# Altium footprint library Connectors.PcbLib: 21 footprints (part 1 of 2)
Each footprint in its own frame and in the unit in brackets; x right, y up, seen from the top. Pads: shape width x height; smd on the part's side, far side on the other; paste and mask are expansions set on the pad; w line width, h text height; cw(c..) or ccw(c..) is an arc to the next point about the centre after c.
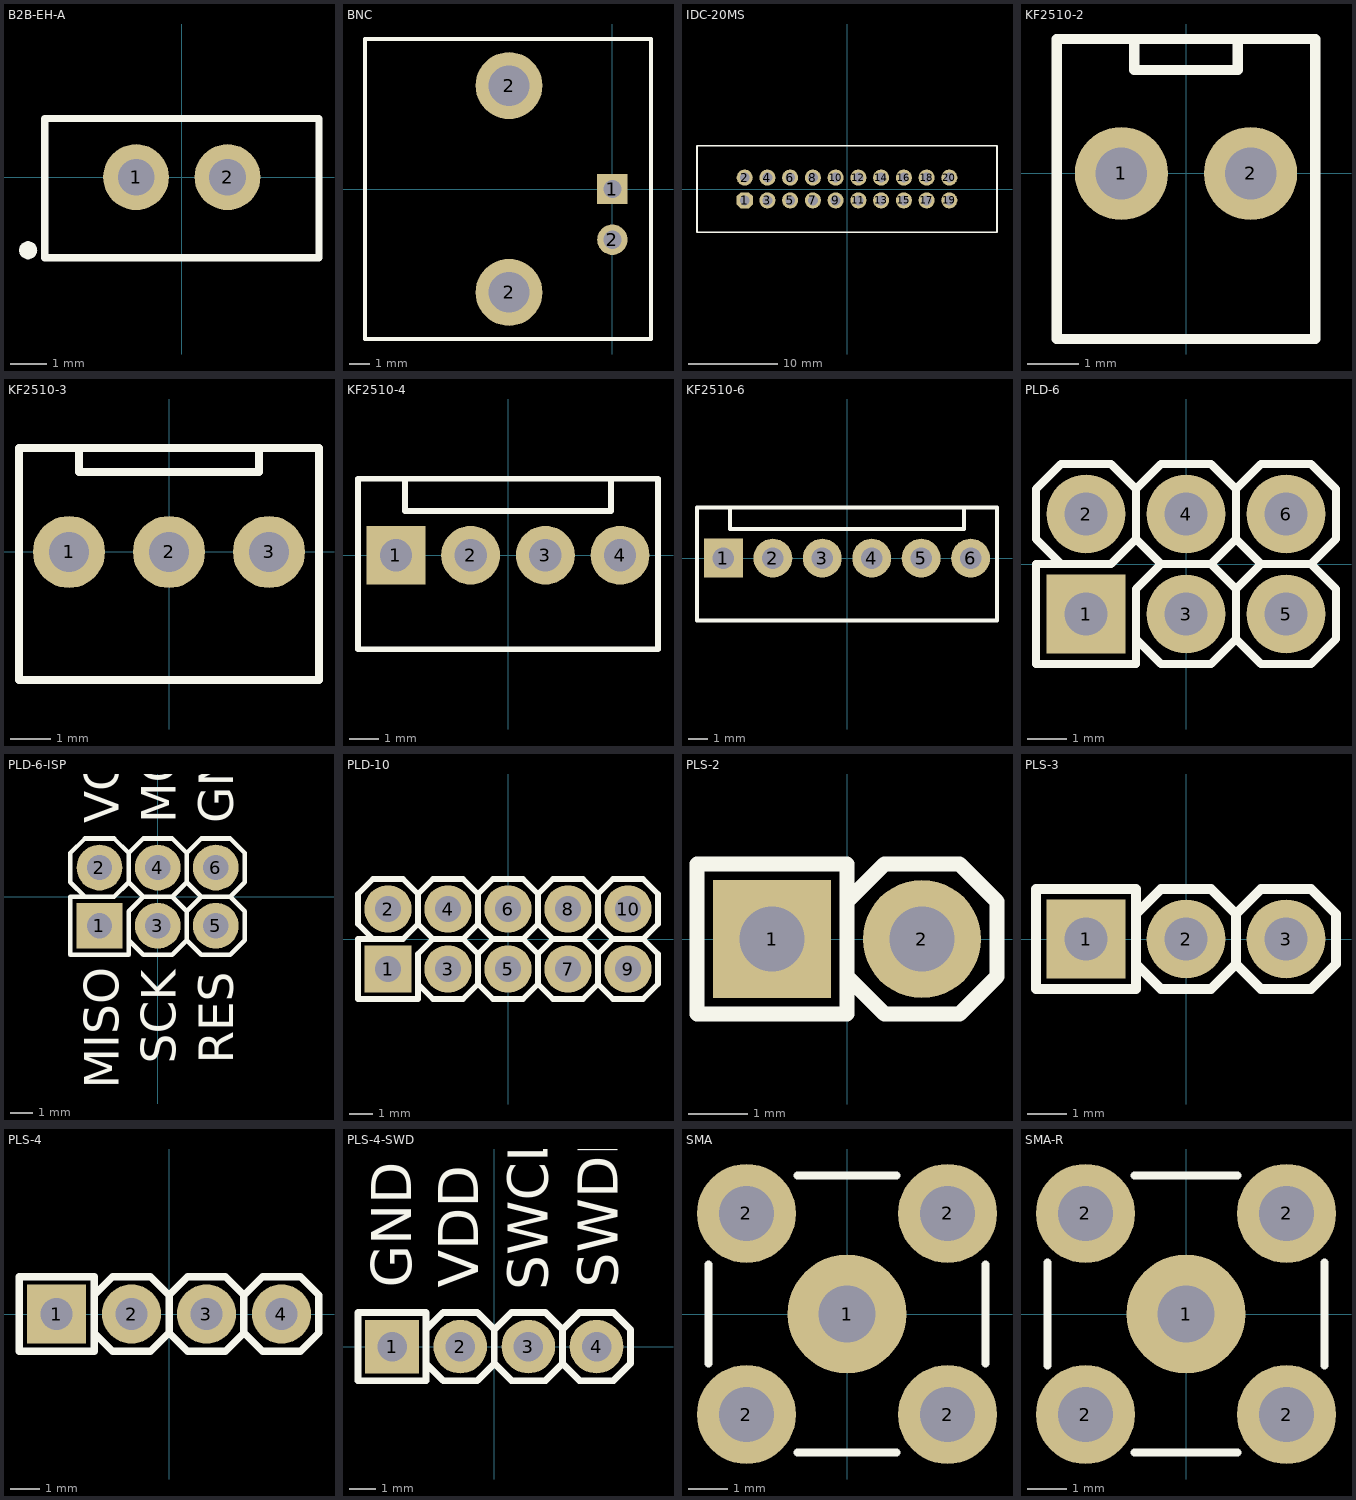
[diagram p0: the footprints below, top view; thin cyan lines are the x and y axes]

## B2B-EH-A [mm]
pads (3):
  round 1.8 hole 1: 1(-1.25,0) 2(1.25,0)
  round 0.5 on Top Overlay: ""(-4.2,-2)
Top Overlay:
  lines w0.2: -3.75,-2.2 -3.75,1.6 3.75,1.6 3.75,-2.2 -3.75,-2.2
3D body "User Library-B2B-EH-A.STEP": height 6.05, standoff -3.15, extent -3.75,-2.2 3.75,1.6

## BNC [mm]
pads (4):
  rect 1.5x1.5 hole 0.9: 1(0,0)
  round 3.3 hole 2: 2(-5.1,-5.1) 2(-5.1,5.1)
  round 1.5 hole 0.9: 2(0,-2.5)
Top Overlay:
  lines w0.025: -12.2,-7.4 1.9,-7.4 1.9,7.4 -12.2,7.4 -12.2,6.25 -12.2,-6.25 -12.2,-7.4
  lines w0.2: -12.2,-7.4 -12.2,-6.25 -12.2,6.25 -12.2,7.4 1.9,7.4 1.9,-7.4 -12.2,-7.4
3D body "BNC.stp": height 16.15, standoff -3.95, extent -33.468,-7.35 2.032,7.35

## IDC-20MS [mm]
height 10
pads (20):
  oct 1.8x1.8 hole 1.1: 1(-11.43,-1.27)
  round 1.8 hole 1.1: 2(-11.43,1.27) 3(-8.89,-1.27) 4(-8.89,1.27) 5(-6.35,-1.27) 6(-6.35,1.27) 7(-3.81,-1.27) 8(-3.81,1.27) 9(-1.27,-1.27) 10(-1.27,1.27) 11(1.27,-1.27) 12(1.27,1.27) 13(3.81,-1.27) 14(3.81,1.27) 15(6.35,-1.27) 16(6.35,1.27) 17(8.89,-1.27) 18(8.89,1.27) 19(11.43,-1.27) 20(11.43,1.27)
Top Overlay:
  lines w0.2: -16.764,-4.826 16.764,-4.826 16.764,4.826 -16.764,4.826 -16.764,-4.826
3D body "IDC-20MS.STEP": height 9, standoff -3, extent -16.43,-4.52 16.57,4.58

## KF2510-2 [mm]
pads (2):
  round 1.8 hole 1: 1(-1.25,0) 2(1.25,0)
Top Overlay:
  lines w0.2: -1,2.6 -1,2 1,2 1,2.6 ; -2.5,-3.2 2.5,-3.2 2.5,2.6 -2.5,2.6 -2.5,-3.2
3D body "2510-2pin_step.step": height 11.4, standoff -2, extent -2.53,-3.2 2.53,2.6

## KF2510-3 [mm]
pads (3):
  round 1.8 hole 1: 1(-2.5,0) 2(0,0) 3(2.5,0)
Top Overlay:
  lines w0.2: -2.25,2.6 -2.25,2 2.25,2 2.25,2.6 ; -3.75,-3.2 -3.75,2.6 3.75,2.6 3.75,-3.2 -3.75,-3.2
3D body "KF2510-3pin.step": height 11.4, standoff -2, extent -3.8,-3.2 3.8,2.6

## KF2510-4 [mm]
height 10
pads (4):
  rect 2x2 hole 1.1: 1(-3.81,0)
  round 2 hole 1.1: 2(-1.27,0) 3(1.27,0) 4(3.81,0)
Top Overlay:
  lines w0.2: -3.5,2.5 -3.5,1.5 3.5,1.5 3.5,2.5 ; -5.1,-3.2 5.1,-3.2 5.1,2.6 -5.1,2.6 -5.1,-3.2
3D body "2510-4pin_step.step": height 11.4, standoff -2, extent -5.06,-3.2 5.06,2.6

## KF2510-6 [mm]
height 10
pads (6):
  rect 2x2 hole 1.1: 1(-6.35,0)
  round 2 hole 1.1: 2(-3.81,0) 3(-1.27,0) 4(1.27,0) 5(3.81,0) 6(6.35,0)
Top Overlay:
  lines w0.2: -6,2.6 -6,1.5 6,1.5 6,2.6 ; -7.7,-3.2 7.7,-3.2 7.7,2.6 -7.7,2.6 -7.7,-3.2
3D body "2510-6pin_step.step": height 11.4, standoff -2, extent -7.61,-3.2 7.59,2.6

## PLD-6 [mm]
height 10
pads (6):
  rect 2x2 hole 1.1: 1(-2.54,-1.27)
  round 2 hole 1.1: 2(-2.54,1.27) 3(0,-1.27) 4(0,1.27) 5(2.54,-1.27) 6(2.54,1.27)
Top Overlay:
  lines w0.2: -3.175,0 -3.81,0.635 -3.81,1.905 -3.175,2.54 ; -1.27,-1.905 -0.635,-2.54 0.635,-2.54 1.27,-1.905 ; -3.175,2.54 -1.905,2.54 ; -3.175,2.54 -1.905,2.54 ; -3.175,2.54 -1.905,2.54 ; -1.905,2.54 -1.27,1.905 ; -1.27,0.635 -0.635,0 ; -1.27,0.635 -1.905,0 -3.81,0 -3.81,-2.54 -1.27,-2.54 -1.27,-0.635 -0.635,0 ; -1.27,0.635 -1.27,1.905 ; -1.27,1.905 -0.635,2.54 ; -0.635,0 0.635,0 ; -0.635,2.54 0.635,2.54 ; -0.635,2.54 0.635,2.54 ; 0.635,0 1.27,-0.635 ; 0.635,0 1.27,0.635 ; 0.635,2.54 1.27,1.905 ; 1.27,-1.905 1.27,-0.635 ; 1.27,-1.905 1.905,-2.54 3.175,-2.54 3.81,-1.905 3.81,-0.635 3.175,0 ; 1.27,-0.635 1.905,0 ; 1.27,0.635 1.905,0 ; 1.27,0.635 1.27,1.905 ; 1.27,1.905 1.905,2.54 ; 1.905,0 3.175,0 ; 1.905,2.54 3.175,2.54 ; 1.905,2.54 3.175,2.54 ; 3.175,0 3.81,0.635 3.81,1.905 3.175,2.54
3D body "PLD-6.STEP": height 8.54, standoff -3, extent -3.81,-2.54 3.81,2.54

## PLD-6-ISP [mm]
height 10
pads (6):
  rect 2x2 hole 1.1: 1(-2.54,-1.27)
  round 2 hole 1.1: 2(-2.54,1.27) 3(0,-1.27) 4(0,1.27) 5(2.54,-1.27) 6(2.54,1.27)
Top Overlay:
  lines w0.2: -3.175,0 -3.81,0.635 -3.81,1.905 -3.175,2.54 ; -1.27,-1.905 -0.635,-2.54 0.635,-2.54 1.27,-1.905 ; -3.175,2.54 -1.905,2.54 ; -3.175,2.54 -1.905,2.54 ; -3.175,2.54 -1.905,2.54 ; -1.905,2.54 -1.27,1.905 ; -1.27,0.635 -0.635,0 ; -1.27,0.635 -1.905,0 -3.81,0 -3.81,-2.54 -1.27,-2.54 -1.27,-0.635 -0.635,0 ; -1.27,0.635 -1.27,1.905 ; -1.27,1.905 -0.635,2.54 ; -0.635,0 0.635,0 ; -0.635,2.54 0.635,2.54 ; -0.635,2.54 0.635,2.54 ; 0.635,0 1.27,-0.635 ; 0.635,0 1.27,0.635 ; 0.635,2.54 1.27,1.905 ; 1.27,-1.905 1.27,-0.635 ; 1.27,-1.905 1.905,-2.54 3.175,-2.54 3.81,-1.905 3.81,-0.635 3.175,0 ; 1.27,-0.635 1.905,0 ; 1.27,0.635 1.905,0 ; 1.27,0.635 1.27,1.905 ; 1.27,1.905 1.905,2.54 ; 1.905,0 3.175,0 ; 1.905,2.54 3.175,2.54 ; 1.905,2.54 3.175,2.54 ; 3.175,0 3.81,0.635 3.81,1.905 3.175,2.54
  text "VCC" at -1.7,3.2 h1.5
  text "MOSI" at 0.8,3.2 h1.5
  text "GND" at 3.3,3.2 h1.5
  text "RES" at 3.3,-7.3 h1.5
  text "SCK" at 0.8,-7.3 h1.5
  text "MISO" at -1.7,-8.4 h1.5
3D body "PLD-6.STEP": height 8.54, standoff -3, extent -3.81,-2.54 3.81,2.54

## PLD-10 [mm]
height 10
pads (10):
  rect 2x2 hole 1.1: 1(-5.08,-1.27)
  round 2 hole 1.1: 2(-5.08,1.27) 3(-2.54,-1.27) 4(-2.54,1.27) 5(0,-1.27) 6(0,1.27) 7(2.54,-1.27) 8(2.54,1.27) 9(5.08,-1.27) 10(5.08,1.27)
Top Overlay:
  lines w0.254: -5.715,0 -6.35,0.635 -6.35,1.905 -5.715,2.54 ; -3.81,-1.905 -3.175,-2.54 -1.905,-2.54 -1.27,-1.905 ; -5.715,2.54 -4.445,2.54 ; -5.715,2.54 -4.445,2.54 ; -4.445,2.54 -3.81,1.905 ; -3.81,0.635 -3.175,0 ; -3.81,0.635 -4.445,0 -6.35,0 -6.35,-2.54 -3.81,-2.54 -3.81,-0.635 -3.175,0 ; -3.81,0.635 -3.81,1.905 ; -3.81,1.905 -3.175,2.54 ; -3.175,0 -1.905,0 ; -3.175,2.54 -1.905,2.54 ; -3.175,2.54 -1.905,2.54 ; -1.905,0 -1.27,0.635 ; -1.905,0 -1.27,-0.635 ; -1.905,2.54 -1.27,1.905 ; -1.27,-1.905 -1.27,-0.635 ; -1.27,-1.905 -0.635,-2.54 0.635,-2.54 1.27,-1.905 ; -1.27,-0.635 -0.635,0 ; -1.27,0.635 -0.635,0 ; -1.27,0.635 -1.27,1.905 ; -1.27,1.905 -0.635,2.54 ; -0.635,0 0.635,0 ; -0.635,2.54 0.635,2.54 ; -0.635,2.54 0.635,2.54 ; 0.635,0 1.27,0.635 ; 0.635,0 1.27,-0.635 ; 0.635,2.54 1.27,1.905 ; 1.27,-1.905 1.27,-0.635 ; 1.27,-1.905 1.905,-2.54 3.175,-2.54 3.81,-1.905 ; 1.27,-0.635 1.905,0 ; 1.27,0.635 1.905,0 ; 1.27,0.635 1.27,1.905 ; 1.27,1.905 1.905,2.54 ; 1.905,0 3.175,0 ; 1.905,2.54 3.175,2.54 ; 1.905,2.54 3.175,2.54 ; 3.175,0 3.81,0.635 ; 3.175,0 3.81,-0.635 ; 3.175,2.54 3.81,1.905 ; 3.81,-1.905 4.445,-2.54 5.715,-2.54 6.35,-1.905 6.35,-0.635 5.715,0 ; 3.81,-1.905 3.81,-0.635 ; 3.81,-0.635 4.445,0 ; 3.81,0.635 3.81,1.905 ; 3.81,0.635 4.445,0 ; 3.81,1.905 4.445,2.54 ; 4.445,0 5.715,0 ; 4.445,2.54 5.715,2.54 ; 4.445,2.54 5.715,2.54 ; 5.715,0 6.35,0.635 6.35,1.905 5.715,2.54
3D body "PLD-10.STEP": height 8.54, standoff -3, extent -6.35,-2.54 6.35,2.54

## PLS-2 [mm]
height 10
pads (2):
  rect 2x2 hole 1.1: 1(-1.27,0)
  round 2 hole 1.1: 2(1.27,0)
Top Overlay:
  lines w0.254: 0,-0.635 0.635,-1.27 1.905,-1.27 2.54,-0.635 2.54,0.635 1.905,1.27 0.635,1.27 0,0.635 ; -2.54,-1.27 0,-1.27 0,1.27 -2.54,1.27 -2.54,-1.27
3D body "PLS-2.STEP": height 8.54, standoff -3, extent -2.573,-1.284 2.507,1.256

## PLS-3 [mm]
height 10
pads (3):
  rect 2x2 hole 1.1: 1(-2.54,0)
  round 2 hole 1.1: 2(0,0) 3(2.54,0)
Top Overlay:
  lines w0.254: -1.27,-0.635 -0.635,-1.27 0.635,-1.27 1.27,-0.635 ; -1.27,0.635 -0.635,1.27 0.635,1.27 1.27,0.635 ; 1.27,-0.635 1.905,-1.27 3.175,-1.27 3.81,-0.635 3.81,0.635 3.175,1.27 1.905,1.27 1.27,0.635 ; 1.27,-0.635 1.27,0.635 ; -3.81,-1.27 -1.27,-1.27 -1.27,1.27 -3.81,1.27 -3.81,-1.27
3D body "PLS-3.STEP": height 8.54, standoff -3, extent -3.81,-1.27 3.81,1.27

## PLS-4 [mm]
height 10
pads (4):
  rect 2x2 hole 1.1: 1(-3.81,0)
  round 2 hole 1.1: 2(-1.27,0) 3(1.27,0) 4(3.81,0)
Top Overlay:
  lines w0.254: -2.54,-0.635 -1.905,-1.27 -0.635,-1.27 0,-0.635 ; -2.54,0.635 -1.905,1.27 -0.635,1.27 0,0.635 ; 0,-0.635 0.635,-1.27 1.905,-1.27 2.54,-0.635 ; 0,-0.635 0,0.635 ; 0,0.635 0.635,1.27 1.905,1.27 2.54,0.635 ; 2.54,-0.635 3.175,-1.27 4.445,-1.27 5.08,-0.635 5.08,0.635 4.445,1.27 3.175,1.27 2.54,0.635 ; 2.54,-0.635 2.54,0.635 ; -5.08,-1.27 -2.54,-1.27 -2.54,1.27 -5.08,1.27 -5.08,-1.27
3D body "PLS-4.STEP": height 8.54, standoff -3, extent -5.08,-1.27 5.08,1.27

## PLS-4-SWD [mm]
height 10
pads (4):
  rect 2x2 hole 1.1: 1(-3.81,0)
  round 2 hole 1.1: 2(-1.27,0) 3(1.27,0) 4(3.81,0)
Top Overlay:
  lines w0.254: -2.54,-0.635 -1.905,-1.27 -0.635,-1.27 0,-0.635 ; -2.54,0.635 -1.905,1.27 -0.635,1.27 0,0.635 ; 0,-0.635 0,0.635 ; 0,-0.635 0.635,-1.27 1.905,-1.27 2.54,-0.635 ; 0,0.635 0.635,1.27 1.905,1.27 2.54,0.635 ; 2.54,-0.635 2.54,0.635 ; 2.54,-0.635 3.175,-1.27 4.445,-1.27 5.08,-0.635 5.08,0.635 4.445,1.27 3.175,1.27 2.54,0.635 ; -5.08,-1.27 -5.08,1.27 -2.54,1.27 -2.54,-1.27 -5.08,-1.27
  text "GND" at -3.1,2.2 h1.5
  text "VDD" at -0.6,2.2 h1.5
  text "SWCLK" at 2,2.1 h1.5
  text "SWDIO" at 4.6,2.2 h1.5
3D body "PLS-4.STEP": height 8.54, standoff -3, extent -5.08,-1.27 5.08,1.27

## SMA [mm]
pads (5):
  round 3 hole 1.45: 1(0,0)
  round 2.5 hole 1.4: 2(-2.54,-2.54) 2(-2.54,2.54) 2(2.54,-2.54) 2(2.54,2.54)
Top Overlay:
  lines w0.2: -3.5,-1.25 -3.5,1.25 ; -1.25,-3.5 1.25,-3.5 ; -1.25,3.5 1.25,3.5 ; 3.5,-1.25 3.5,1.25
3D body "SMA_connector.STEP": height 9.53, standoff -3.94, extent -3.5,-3.5 3.5,3.5

## SMA-R [mm]
pads (5):
  round 3 hole 1.45: 1(0,0)
  round 2.5 hole 1.4: 2(-2.54,-2.54) 2(-2.54,2.54) 2(2.54,-2.54) 2(2.54,2.54)
Top Overlay:
  lines w0.2: -3.5,-1.3 -3.5,1.3 ; -1.3,-3.5 1.3,-3.5 ; -1.3,3.5 1.3,3.5 ; 3.5,-1.3 3.5,1.3
3D body "Samtec-SMA-J-P-H-RA-TH1.STEP": height 10.26, standoff -3.84, extent -3.5,-3.5 3.5,11.6